# EAGLE library part ST7789 (library me433-2021)
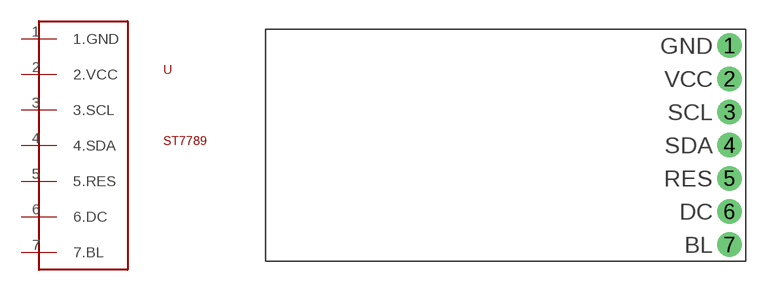
[diagram p9: symbol with the pads of ST7789; footprint ST7789]

Designator prefix -

## ST7789  [ST7789]
1  1.GND
2  2.VCC
3  3.SCL
4  4.SDA
5  5.RES
6  6.DC
7  7.BL

## Footprint ST7789 (pad centres in mm)
drill 1.016 pad 1.88: 1 5.08,6.35; 2 5.08,3.81; 3 5.08,1.27; 4 5.08,-1.27; 5 5.08,-3.81; 6 5.08,-6.35; 7 5.08,-8.89